# Altium footprint library SODFL3718X130N.PcbLib: 1 footprints
Each footprint in its own frame and in the unit in brackets; x right, y up, seen from the top. Pads: shape width x height; smd on the part's side, far side on the other; paste and mask are expansions set on the pad; w line width, h text height; cw(c..) or ccw(c..) is an arc to the next point about the centre after c.
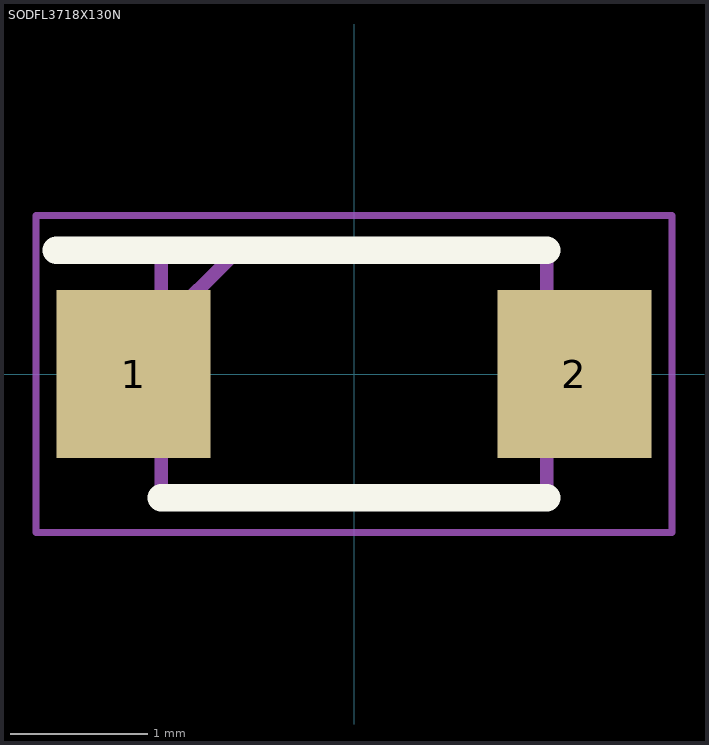
[diagram p0: the footprint, top view; thin cyan lines are the x and y axes]

## SODFL3718X130N [mm]
pads (2):
  rect 1.12x1.22 smd: 1(-1.6,0) 2(1.6,0)
Top Overlay:
  lines w0.2: -2.16,0.9 1.4,0.9 ; -1.4,-0.9 1.4,-0.9
Mechanical 15:
  lines w0.1: -1.4,0.34 -0.84,0.9 ; -1.4,-0.9 1.4,-0.9 1.4,0.9 -1.4,0.9 -1.4,-0.9
Mechanical 20:
  lines w0.05: -2.31,-1.15 2.31,-1.15 2.31,1.15 -2.31,1.15 -2.31,-1.15